# Altium schematic symbol library NDC7002N.SchLib: 1 symbol
Pins are listed as number, name and electrical type; pins without a type are passive.

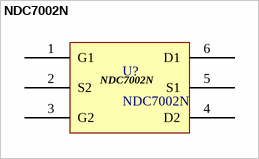
[diagram p0: symbol NDC7002N]

## NDC7002N
designator U?
pins: 1 G1, 2 S2, 3 G2, 4 D2, 5 S1, 6 D1